# Altium schematic symbol library conn_sata.SchLib: 4 symbols
Pins are listed as number, name and electrical type; pins without a type are passive.

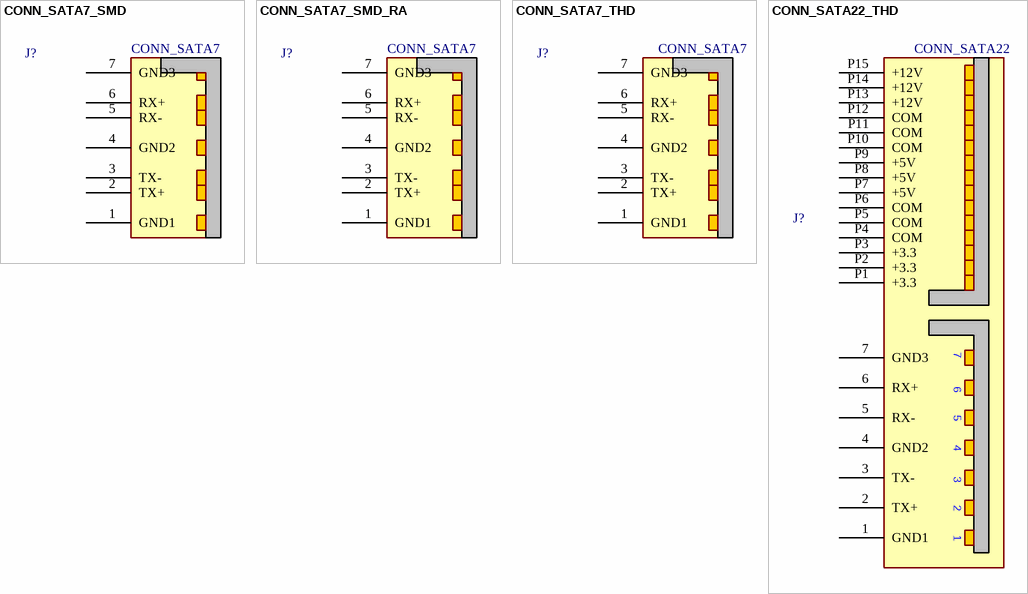
[diagram p0: symbols CONN_SATA7_SMD to CONN_SATA22_THD]

## CONN_SATA7_SMD
designator J?, comment CONN_SATA7
CONN, SATA, 7POS, Vertical, THD; MANF: Molex; MANF_P#: 67800-5003; PRICE: 1=1.37, 10=1.065, 25=0.9928, 50=0.9026, 100=0.8123, 250=0.68592, 500=0.6498, 1000=0.5776, 2500=0.48013 (USD); VALUE: CONN_SATA7
footprint SATA_7_ST_SMD (Serial ATA/Vertical/Through Hole/Locking Latch/Footprint A In-line Solder Pin/PCB Locator Tabs/molex pn:67800-8001)
pins: 1 GND1, 2 TX+, 3 TX-, 4 GND2, 5 RX-, 6 RX+, 7 GND3

## CONN_SATA7_SMD_RA
designator J?, comment CONN_SATA7
CONN, SATA, 7POS, RightAngle, THD; MANF: Molex; MANF_P#: 047080-4001; PRICE: 1=0.86$; VALUE: CONN_SATA7
footprint SATA_7_RA_SMD (Serial ATA/RightAngle/SMT/Locking Latch/Footprint molex pn:047080-4001)
pins: 1 GND1, 2 TX+, 3 TX-, 4 GND2, 5 RX-, 6 RX+, 7 GND3

## CONN_SATA7_THD
designator J?, comment CONN_SATA7
CONN, SATA, 7POS, Vertical, THD; MANF: Molex Inc; MANF_P#: 0471554001; PRICE: 1=1.37, 10=1.065, 25=0.9928, 50=0.9026, 100=0.8123, 250=0.68592, 500=0.6498, 1000=0.5776, 2500=0.48013 (USD); VALUE: CONN_SATA7
footprint SATA_7_ST (Serial ATA/Vertical/Through Hole/Locking Latch/Footprint A In-line Solder Pin/PCB Locator Tabs/molex pn:67800-8001)
pins: 1 GND1, 2 TX+, 3 TX-, 4 GND2, 5 RX-, 6 RX+, 7 GND3

## CONN_SATA22_THD
designator J?, comment CONN_SATA22
CONN, SATA, 22POS, Vertical, THD; MANF: Molex; MANF_P#: 0471554001; PRICE: -; VALUE: CONN_SATA22
footprint SATA_22_ST (Serial ATA/Vertical/Through Hole/Locking Latch/Footprint molex pn:67800-8001)
pins: 1 GND1, 2 TX+, 3 TX-, 4 GND2, 5 RX-, 6 RX+, 7 GND3, P1 +3.3, P2 +3.3, P3 +3.3, P4 COM, P5 COM, P6 COM, P7 +5V, P8 +5V, P9 +5V, P10 COM, P11 COM, P12 COM, P13 +12V, P14 +12V, P15 +12V